# EAGLE library part MICRF219AYQS (library Micrel)
RECEIVER
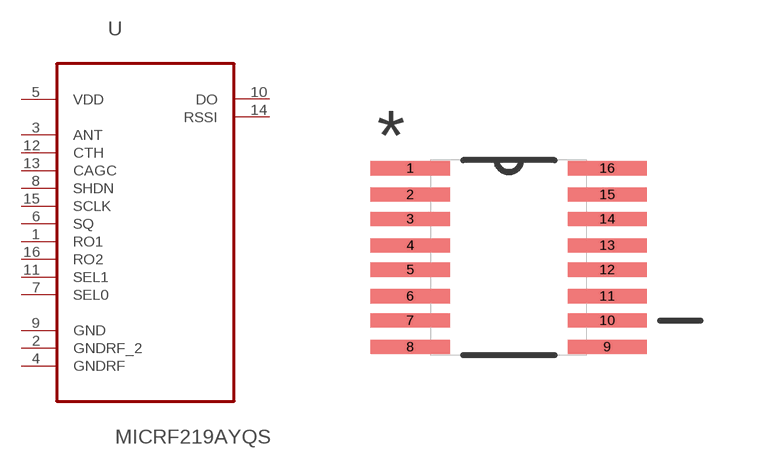
[diagram p12: symbol with the pads of SOP63P600X175-16N; footprint SOP63P600X175-16N]

Designator prefix U

## MICRF219AYQS (MPN: MICRF219AYQS; OC_FARNELL: 1864795; OC_NEWARK: 27T5855; PACKAGE: SOIC-16; SUPPLIER: MICREL SEMICONDUCTOR)  [SOP63P600X175-16N]
1  RO1  in
2  GNDRF_2  pas
3  ANT  in
4  GNDRF  pas
5  VDD  pwr
6  SQ  in
7  SEL0  in
8  SHDN  in
9  GND  pas
10  DO  out
11  SEL1  in
12  CTH  pas
13  CAGC  pas
14  RSSI  out
15  SCLK  in
16  RO2  in

## Footprint SOP63P600X175-16N (pad centres in mm)
smd 1.981 x 0.356: 1 -2.464,2.235; 2 -2.464,1.575; 3 -2.464,0.965; 4 -2.464,0.305; 5 -2.464,-0.305; 6 -2.464,-0.965; 7 -2.464,-1.575; 8 -2.464,-2.235; 9 2.464,-2.235; 10 2.464,-1.575; 11 2.464,-0.965; 12 2.464,-0.305; 13 2.464,0.305; 14 2.464,0.965; 15 2.464,1.575; 16 2.464,2.235